# Altium schematic symbol library IC_Analog_Devices_AD9910BSVZ_eec.SchLib: 1 symbol
Pins are listed as number, name and electrical type; pins without a type are passive.

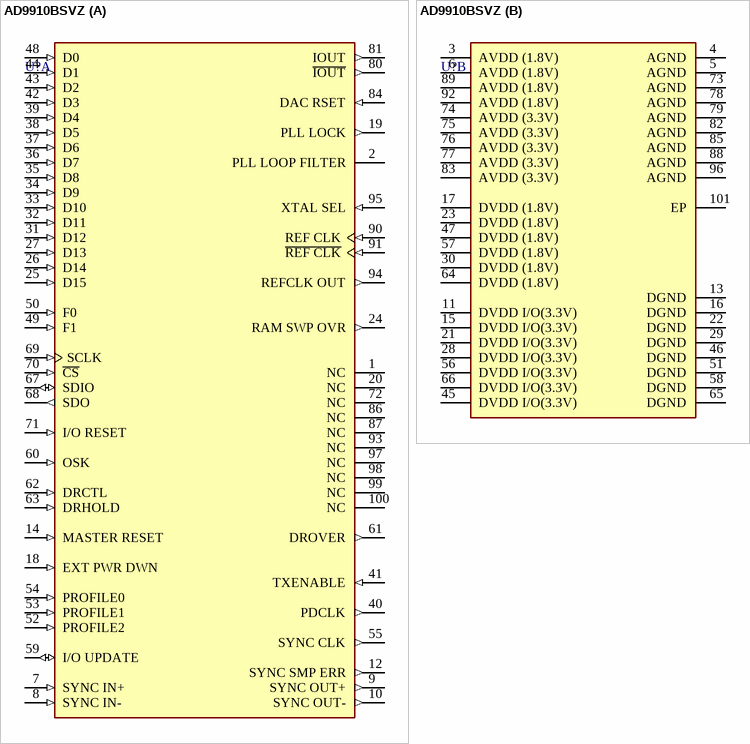
[diagram p0: symbol AD9910BSVZ]

## AD9910BSVZ
designator U?  (value not drawn)
part A pins: 1 NC, 2 PLL LOOP FILTER, 7 SYNC IN+ (in), 8 SYNC IN- (in), 9 SYNC OUT+ (out), 10 SYNC OUT- (out), 12 SYNC SMP ERR (out), 14 MASTER RESET (in), 18 EXT PWR DWN (in), 19 PLL LOCK (out), 20 NC, 24 RAM SWP OVR (out), 25 D15 (in), 26 D14 (in), 27 D13 (in), 31 D12 (in), 32 D11 (in), 33 D10 (in), 34 D9 (in), 35 D8 (in), 36 D7 (in), 37 D6 (in), 38 D5 (in), 39 D4 (in), 40 PDCLK (out), 41 TXENABLE (in), 42 D3 (in), 43 D2 (in), 44 D1 (in), 48 D0 (in), 49 F1 (in), 50 F0 (in), 52 PROFILE2 (in), 53 PROFILE1 (in), 54 PROFILE0 (in), 55 SYNC CLK (out), 59 I/O UPDATE (io), 60 OSK (in), 61 DROVER (out), 62 DRCTL (in), 63 DRHOLD (in), 67 SDIO (io), 68 SDO (out), 69 SCLK (in), 70 ~{CS} (in), 71 I/O RESET (in), 72 NC, 80 ~{IOUT} (out), 81 IOUT (out), 84 DAC RSET (in), 86 NC, 87 NC, 90 REF CLK (in), 91 ~{REF CLK} (in), 93 NC, 94 REFCLK OUT (out), 95 XTAL SEL (in), 97 NC, 98 NC, 99 NC, 100 NC
part B pins: 3 AVDD (1.8V) (power), 4 AGND (power), 5 AGND (power), 6 AVDD (1.8V) (power), 11 DVDD I/O(3.3V) (power), 13 DGND (power), 15 DVDD I/O(3.3V) (power), 16 DGND (power), 17 DVDD (1.8V) (power), 21 DVDD I/O(3.3V) (power), 22 DGND (power), 23 DVDD (1.8V) (power), 28 DVDD I/O(3.3V) (power), 29 DGND (power), 30 DVDD (1.8V) (power), 45 DVDD I/O(3.3V) (power), 46 DGND (power), 47 DVDD (1.8V) (power), 51 DGND (power), 56 DVDD I/O(3.3V) (power), 57 DVDD (1.8V) (power), 58 DGND (power), 64 DVDD (1.8V) (power), 65 DGND (power), 66 DVDD I/O(3.3V) (power), 73 AGND (power), 74 AVDD (3.3V) (power), 75 AVDD (3.3V) (power), 76 AVDD (3.3V) (power), 77 AVDD (3.3V) (power), 78 AGND (power), 79 AGND (power), 82 AGND (power), 83 AVDD (3.3V) (power), 85 AGND (power), 88 AGND (power), 89 AVDD (1.8V) (power), 92 AVDD (1.8V) (power), 96 AGND (power), 101 EP (power)